# EAGLE library part SABLE-X-BLE-MODULE (library Capstone Library)
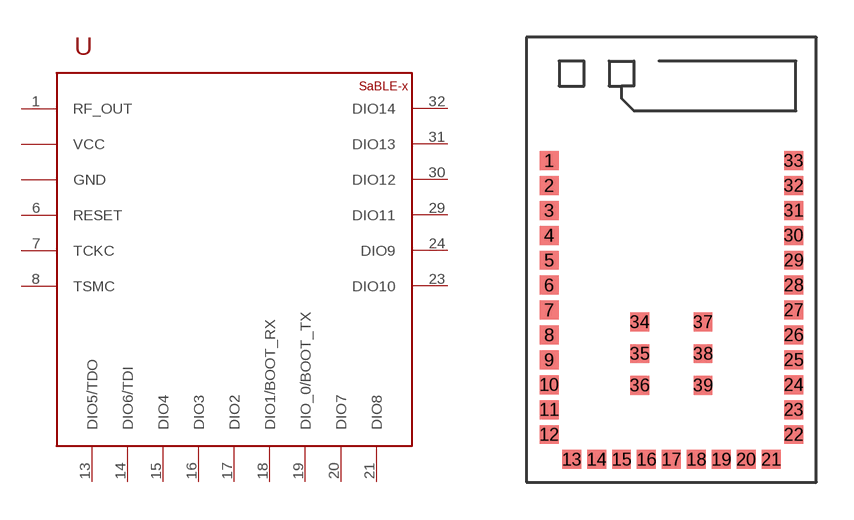
[diagram p0: symbol with the pads of SABLE-X-BLE-MODULE; footprint SABLE-X-BLE-MODULE]

Designator prefix -

## SABLE-X-BLE-MODULE  [SABLE-X-BLE-MODULE]
1  RF_OUT
2  GND
3  GND
6  RESET
7  TCKC
8  TSMC
11  VCC
12  VCC
13  DIO5/TDO
14  DIO6/TDI
15  DIO4
16  DIO3
17  DIO2
18  DIO1/BOOT_RX
19  DIO_0/BOOT_TX
20  DIO7
21  DIO8
22  GND
23  DIO10
24  DIO9
29  DIO11
30  DIO12
31  DIO13
32  DIO14
33  GND
34  GND
35  GND
36  GND
37  GND
38  GND
39  GND

## Footprint SABLE-X-BLE-MODULE (pad centres in mm)
smd 0.76 x 0.76: 1 -4.905,11; 2 -4.905,10; 3 -4.905,9; 4 -4.905,8; 5 -4.905,7; 6 -4.905,6; 7 -4.905,5; 8 -4.905,4; 9 -4.905,3; 10 -4.905,2; 11 -4.905,1; 12 -4.905,0; 13 -4,-1; 14 -3,-1; 15 -2,-1; 16 -1,-1; 17 0,-1; 18 1,-1; 19 2,-1; 20 3,-1; 21 4,-1; 22 4.905,0; 23 4.905,1; 24 4.905,2; 25 4.905,3; 26 4.905,4; 27 4.905,5; 28 4.905,6; 29 4.905,7; 30 4.905,8; 31 4.905,9; 32 4.905,10; 33 4.905,11; 34 -1.27,4.52; 35 -1.27,3.25; 36 -1.27,1.98; 37 1.27,4.52; 38 1.27,3.25; 39 1.27,1.98